# Altium integrated library IRM-30-12.IntLib: 1 symbol
Pins are listed as number, name and electrical type; pins without a type are passive.

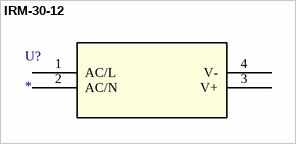
[diagram p0: symbol IRM-30-12]

## IRM-30-12
designator U?
No Description Available; Mfr_Name: Mean Well; RefDes: RefDes; Type: Type; Supplier 1: Future Electronics; Supplier Part Number 1: 9051654
footprint IRM-30_MWU
pins: 1 AC/L, 2 AC/N, 3 V+ (power), 4 V- (power)